# Altium footprint library mec-pushbutton.PcbLib: 1 footprints
Each footprint in its own frame and in the unit in brackets; x right, y up, seen from the top. Pads: shape width x height; smd on the part's side, far side on the other; paste and mask are expansions set on the pad; w line width, h text height; cw(c..) or ccw(c..) is an arc to the next point about the centre after c.
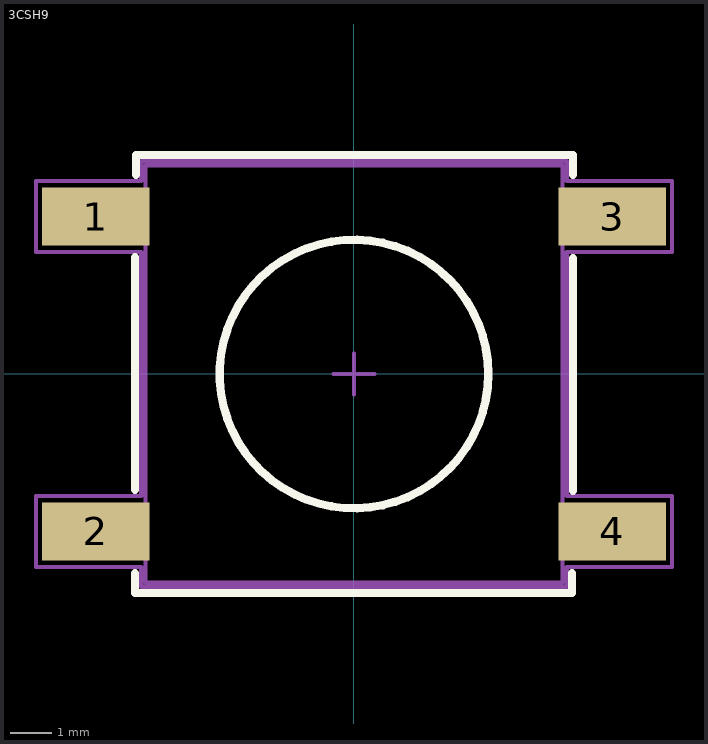
[diagram p0: the footprint, top view; thin cyan lines are the x and y axes]

## 3CSH9 [mm] "SMD Tact Switch 10.1X10.1mm, Gull Wing Termination"
height 6.4
pads (4):
  rect 2.6x1.4 smd: 1(-6.25,3.81) 2(-6.25,-3.81) 3(6.25,3.81) 4(6.25,-3.81)
Top Overlay:
  circle w0.2: c0,0 r3.25
  lines w0.2: -5.3,-4.825 -5.3,-5.3 5.275,-5.3 5.275,-4.825 ; -5.3,-2.8 -5.3,2.825 ; -5.275,4.825 -5.275,5.3 5.3,5.3 5.3,4.825 ; 5.3,-2.825 5.3,2.8
Mechanical 13:
  lines w0.1: -0.5,0 0.5,0 ; 0,-0.5 0,0.5 ; -5.05,-5.05 -5.05,5.05 5.05,5.05 5.05,-5.05 -5.05,-5.05
Mechanical 15:
  lines w0.1: -7.7,-4.675 -5.15,-4.675 -5.15,-5.15 5.15,-5.15 5.15,-4.675 7.7,-4.675 7.7,-2.95 5.15,-2.95 5.15,2.95 7.7,2.95 7.7,4.675 5.15,4.675 5.15,5.15 -5.15,5.15 -5.15,4.675 -7.7,4.675 -7.7,2.95 -5.15,2.95 -5.15,-2.95 -7.7,-2.95 -7.7,-4.675
  text ".Designator" at -2.55,-0.35 h0.5
3D body: height 5.1, standoff 0, extent -5.05,-5.05 5.05,5.05
3D body: height 6.4, standoff 0, extent -3.237,-3.244 3.237,3.244